# Altium footprint library SS14.PcbLib: 1 footprints
Each footprint in its own frame and in the unit in brackets; x right, y up, seen from the top. Pads: shape width x height; smd on the part's side, far side on the other; paste and mask are expansions set on the pad; w line width, h text height; cw(c..) or ccw(c..) is an arc to the next point about the centre after c.
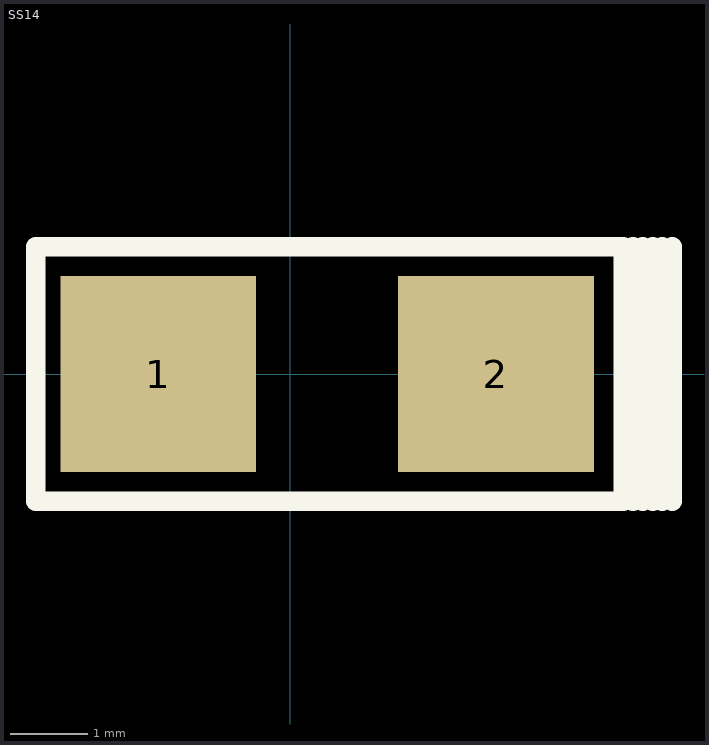
[diagram p0: the footprint, top view; thin cyan lines are the x and y axes]

## SS14 [mil] "肖特基二极管"
pads (2):
  rect 100x100 smd: 1(-67.5,0) 2(105,0)
Top Overlay:
  lines w10: 175,-65 175,65 ; 180,-65 180,65 ; 185,-65 185,65 ; 190,-65 190,65 ; 195,-65 195,65 ; -130,-65 170,-65 170,65 -130,65 -130,20 -130,-65